# EAGLE library part MXA2300 (library Zoli2_2015-01-28)
Low-Cost +-2 g Dual-Axis Accelerometer with Duty Cycle Output Source: www.analog.com/UploadedFiles/Data_Sheets/53728567227477ADXL202E_a.pdf
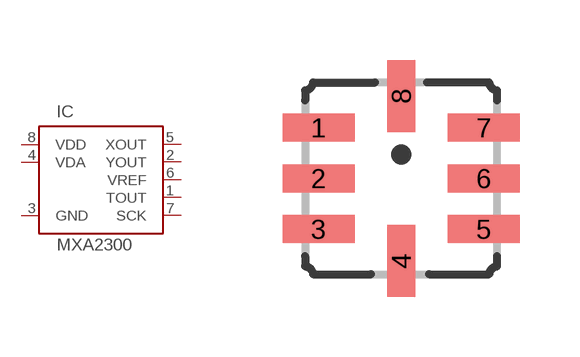
[diagram p57: symbol with the pads of LCC8; footprint LCC8]

Designator prefix IC

## MXA2300JV  [LCC8]
1  TOUT  out
2  YOUT  out
3  GND  sup
4  VDA  sup
5  XOUT  out
6  VREF  out
7  SCK  in
8  VDD  sup

## Footprint LCC8 (pad centres in mm)
8-Terminal Ceramic Leadless Chip Carrier [LCC] (E-8) Source: www.analog.com/UploadedFiles/Packages/189346426E_8.pdf
smd 1.8 x 0.7: 1 -2.067,1.27; 2 -2.067,0; 3 -2.067,-1.27; 5 2.067,-1.27; 6 2.067,0; 7 2.067,1.27
smd 0.7 x 1.8: 4 0,-2.067; 8 0,2.067